# Altium schematic symbol library card.SCHLIB: 17 symbols
Pins are listed as number, name and electrical type; pins without a type are passive.

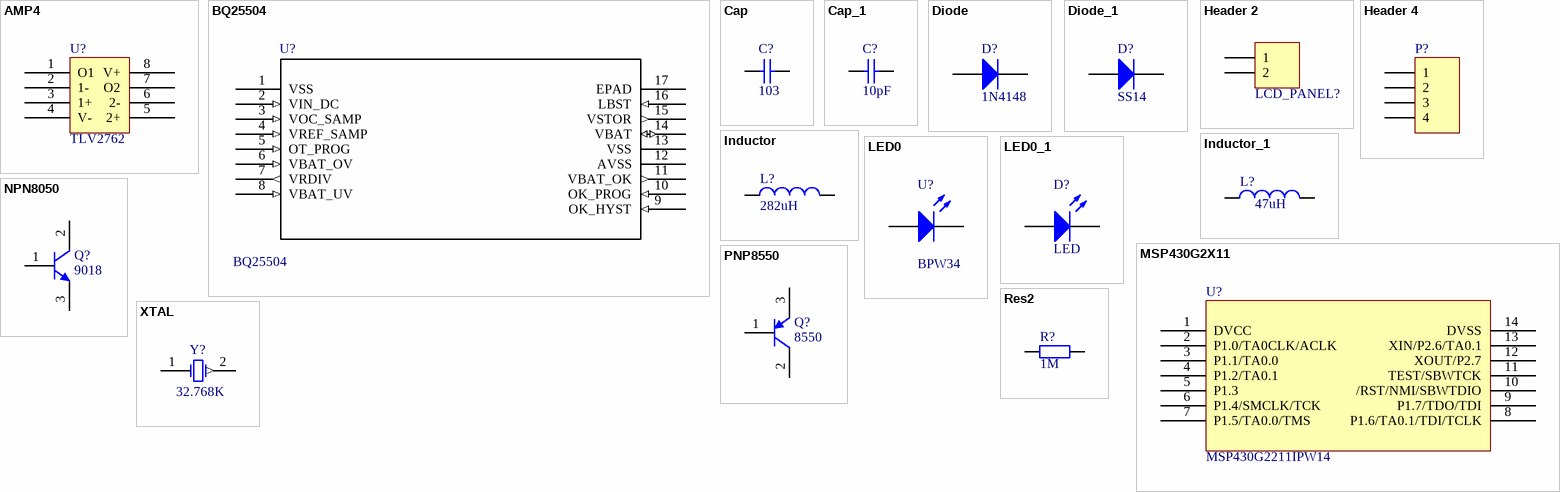
[diagram p0: symbols AMP4 to XTAL]

## AMP4
designator U?  value TLV2762  (hidden comment: AMP4)
footprint SOP-8
pins: 1 O1, 2 1-, 3 1+, 4 V-, 5 2+, 6 2-, 7 O2, 8 V+

## BQ25504
designator U?
Value: BQ25504
footprint QFN16(3.2X3.2)
pins: 1 VSS (power), 2 VIN_DC (in), 3 VOC_SAMP (in), 4 VREF_SAMP (in), 5 OT_PROG (in), 6 VBAT_OV (in), 7 VRDIV (out), 8 VBAT_UV (in), 9 OK_HYST (in), 10 OK_PROG (in), 11 VBAT_OK (out), 12 AVSS (power), 13 VSS (power), 14 VBAT (io), 15 VSTOR (out), 16 LBST (in), 17 EPAD (power)

## Cap
designator C?  value 103  (hidden comment: Cap)
Capacitor; LatestRevisionDate: 17-Jul-2002; LatestRevisionNote: Re-released for DXP Platform.; Publisher: Altium Limited
footprint RAD-0.3 (Capacitor; 2 Leads)
footprint VP32-3.2 (Capacitor, Ceramic, Thru-Hole, Dipped Radial; Body 5.1 x 3.2 mm (WxT) Pin Spacing 2.54 mm (typ))
footprint VP45-3.2 (Capacitor, Ceramic, Thru-Hole, Dipped Radial; Body 7.8 x 3.2 mm (WxT) Pin Spacing 5.08 mm (typ))
simulation model CAP (Capacitor)
signal-integrity model Cap
footprint CC1005-0402 (Chip Capacitor; Body 1.0 x 0.5 mm (LxW typ))
footprint CC1005-0402 (Chip Capacitor; Body 1.0 x 0.5 mm (LxW typ))
footprint 0603C
pins: 1, 2

## Cap_1
designator C?, comment value 10pF  (hidden comment: Cap)
Capacitor; Published: 8-Jun-2000; LatestRevisionDate: 17-Jul-2002; LatestRevisionNote: Re-released for DXP Platform.; PackageReference: RAD-0.3; Publisher: Altium Limited
footprint RAD-0.3 (Capacitor; 2 Leads)
footprint VP32-3.2 (Capacitor, Ceramic, Thru-Hole, Dipped Radial; Body 5.1 x 3.2 mm (WxT) Pin Spacing 2.54 mm (typ))
footprint VP45-3.2 (Capacitor, Ceramic, Thru-Hole, Dipped Radial; Body 7.8 x 3.2 mm (WxT) Pin Spacing 5.08 mm (typ))
simulation model CAP (Capacitor)
signal-integrity model Cap
footprint 0805R
footprint 0603C
pins: 1, 2

## Diode
designator D?  value 1N4148  (hidden comment: Diode)
Default Diode; Published: 8-Jun-2000; LatestRevisionDate: 17-Jul-2002; LatestRevisionNote: Re-released for DXP Platform.; PackageDocument: Sep-1996; PackageReference: SMC; Publisher: Altium Limited
footprint IN4148D
simulation model DIODE (Diode)
signal-integrity model Diode
pins: 1 A, 2 K

## Diode_1
designator D?, comment value SS14  (hidden comment: Diode)
Default Diode; Published: 8-Jun-2000; LatestRevisionDate: 17-Jul-2002; LatestRevisionNote: Re-released for DXP Platform.; PackageDocument: Sep-1996; PackageReference: SMC; Publisher: Altium Limited
footprint SS14
simulation model DIODE (Diode)
signal-integrity model Diode
pins: 1 A, 2 K

## Header 2
designator LCD_PANEL?  (value not drawn)
Header, 2-Pin; Value: SOCKET_2; LatestRevisionDate: 17-Jul-2002; LatestRevisionNote: Re-released for DXP Platform.; Publisher: Altium Limited
footprint SIP2
pins: 1, 2

## Header 4
designator P?  (value not drawn)
Header, 4-Pin; Value: SOCKET_4; LatestRevisionDate: 17-Jul-2002; LatestRevisionNote: Re-released for DXP Platform.; Publisher: Altium Limited
footprint SIP4
signal-integrity model Connector
pins: 1, 2, 3, 4

## Inductor
designator L?  value 282uH  (hidden comment: Inductor)
Code_IEC: 1005; Published: 8-Jun-2000; LatestRevisionDate: 17-Jul-2002; LatestRevisionNote: Re-released for DXP Platform.; Publisher: Altium Limited
footprint 0805R
footprint INDC1608-0603 (Chip Inductor; Body 1.6 x 0.8 mm (LxW typ))
footprint INDC2010-0804 (2012 Chip; Chip Inductor; Body 2.0 x 1.2 mm (LxW typ))
footprint INDC2012-0805 (Chip Inductor; Body 2 x 1.2 mm (LxW typ))
footprint INDC3216-1206 (3216 Chip; Chip Inductor; Body 3.2 x 1.6 mm (LxW typ))
footprint INDC4510-1804 (4564 Chip; Chip Inductor; Body 4.5 x 6.4 mm (LxW typ))
simulation model INDUCTOR (Inductor)
signal-integrity model Inductor
pins: 1, 2

## Inductor_1
designator L?, comment value 47uH  (hidden comment: Inductor)
Code_IEC: 1005; Published: 8-Jun-2000; LatestRevisionDate: 17-Jul-2002; LatestRevisionNote: Re-released for DXP Platform.; Publisher: Altium Limited
footprint 1206
footprint INDC1608-0603 (Chip Inductor; Body 1.6 x 0.8 mm (LxW typ))
footprint INDC2010-0804 (2012 Chip; Chip Inductor; Body 2.0 x 1.2 mm (LxW typ))
footprint INDC2012-0805 (Chip Inductor; Body 2 x 1.2 mm (LxW typ))
footprint INDC3216-1206 (3216 Chip; Chip Inductor; Body 3.2 x 1.6 mm (LxW typ))
footprint INDC4510-1804 (4564 Chip; Chip Inductor; Body 4.5 x 6.4 mm (LxW typ))
simulation model INDUCTOR (Inductor)
signal-integrity model Inductor
pins: 1, 2

## LED0
designator U?  value BPW34
Typical INFRARED GaAs LED; Published: 8-Jun-2000; LatestRevisionDate: 17-Jul-2002; LatestRevisionNote: Re-released for DXP Platform.; Publisher: Altium Limited
simulation model LED0 (Diode)
footprint SENSOR_1
pins: 1 A, 2 K

## LED0_1
designator D?  value LED
Typical INFRARED GaAs LED; Published: 8-Jun-2000; LatestRevisionDate: 17-Jul-2002; LatestRevisionNote: Re-released for DXP Platform.; Publisher: Altium Limited
simulation model LED0 (Diode)
footprint LED-3mm
pins: 1 A, 2 K

## MSP430G2X11
designator U?  value MSP430G2211IPW14  (hidden comment: MSP430G2X11)
footprint TSSOP14 (Shrink Small Outline; 14 Leads; Body Width 4.4 mm; Pitch 0.65 mm)
pins: 1 DVCC, 2 P1.0/TA0CLK/ACLK, 3 P1.1/TA0.0, 4 P1.2/TA0.1, 5 P1.3, 6 P1.4/SMCLK/TCK, 7 P1.5/TA0.0/TMS, 8 P1.6/TA0.1/TDI/TCLK, 9 P1.7/TDO/TDI, 10 /RST/NMI/SBWTDIO, 11 TEST/SBWTCK, 12 XOUT/P2.7, 13 XIN/P2.6/TA0.1, 14 DVSS

## NPN8050
designator Q?  value 9018  (hidden comment: NPN8050)
footprint 8050SOT
pins: 1 B, 2 C, 3 E

## PNP8550
designator Q?  value 8550  (hidden comment: PNP8550)
footprint 8050SOT
pins: 1 B, 2 C, 3 E

## Res2
designator R?  value 1M  (hidden comment: Res2)
Resistor
footprint AXIAL-0.4 (Resistor; 2 Leads)
simulation model RESISTOR (Resistor)
signal-integrity model Res
footprint 0805R
footprint CR1005-0402 (Chip Resistor; Body 1.1 x 0.5 mm (LxW typ))
footprint 0603R
pins: 1, 2

## XTAL
designator Y?  value 32.768K  (hidden comment: XTAL)
Crystal Oscillator; Published: 8-Jun-2000; LatestRevisionDate: 17-Jul-2002; LatestRevisionNote: Re-released for DXP Platform.; PackageReference: R38; Publisher: Altium Limited
footprint XTAL5
simulation model XTAL (Spice Subcircuit)
pins: 1 OSC1, 2 OSC2 (out)